# Altium footprint library Phase4.PcbLib: 25 footprints (part 1 of 2)
Each footprint in its own frame and in the unit in brackets; x right, y up, seen from the top. Pads: shape width x height; smd on the part's side, far side on the other; paste and mask are expansions set on the pad; w line width, h text height; cw(c..) or ccw(c..) is an arc to the next point about the centre after c.
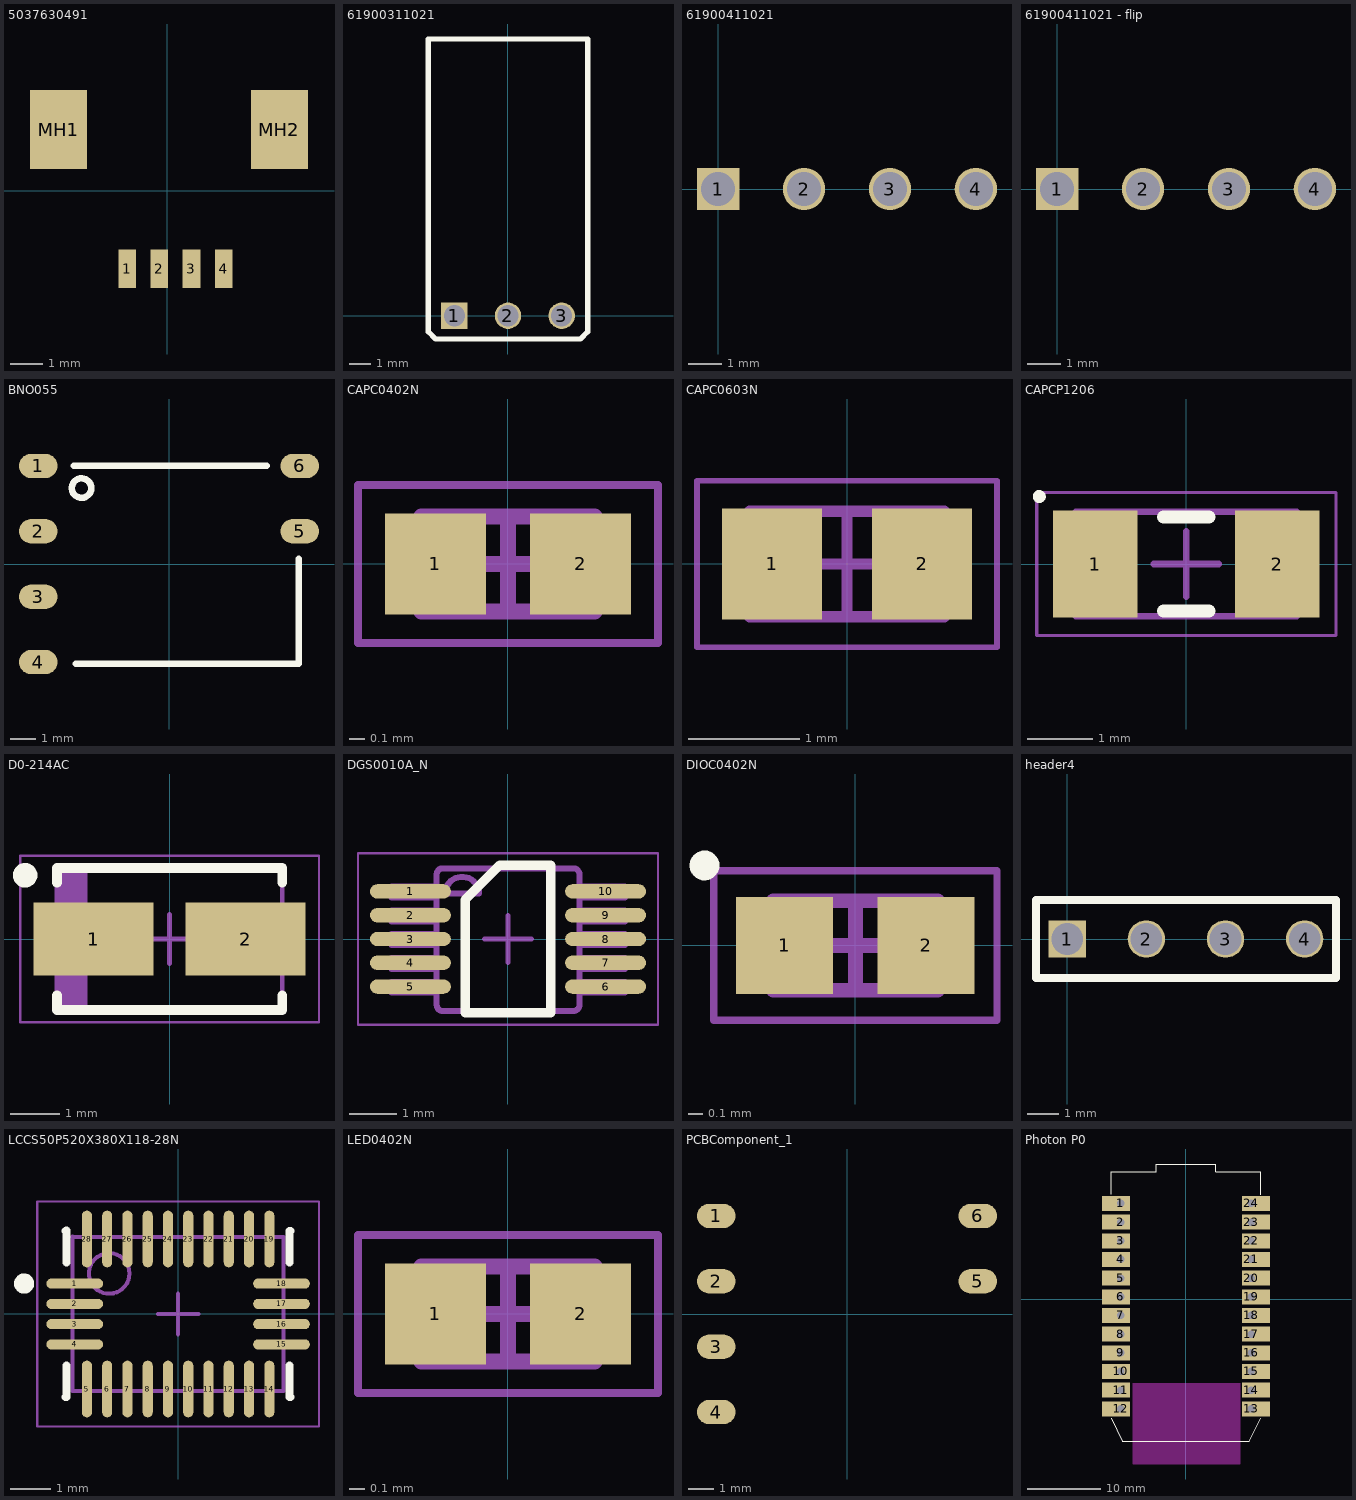
[diagram p0: the footprints below, top view; thin cyan lines are the x and y axes]

## 5037630491 [mm] "4 Positions Header, Shrouded Connector 0.039\" (1.00mm) Surface Mount, Right Angle Gold"
pads (6):
  rect 0.55x1.2 smd: 1(-1.25,-2.425) 2(-0.25,-2.425) 3(0.75,-2.425) 4(1.75,-2.425)
  rect 1.77x2.47 smd: MH1(-3.385,1.91) MH2(3.485,1.91)
3D body "5037630491.stp": height 1.48, standoff -0.02, extent -4.05,-2.115 4.55,3.075

## 61900311021 [mm] "3 Positions Header, Unshrouded Connector 0.100\" (2.54mm) Through Hole, Right Angle Tin"
pads (3):
  rect 1.25x1.25 hole 1: 1(-2.54,0)
  round 1.25 hole 1: 2(0,0) 3(2.54,0)
Top Overlay:
  lines w0.254: -2.9,-1.1 -3.425,-1.1 ; 3.175,-1.1 3.425,-1.1 ; -3.425,-1.1 3.425,-1.1 ; -3.425,-1.1 -3.775,-0.75 -3.775,13.1 3.775,13.1 3.775,-0.75 3.425,-1.1
3D body "61900311021.stp": height 5.9, standoff -3.3, extent -3.785,-0.27 3.835,13.25

## 61900411021 [mm] "4 Positions Header Connector 0.100\" (2.54mm) Through Hole, Right Angle Tin"
pads (4):
  rect 1.25x1.25 hole 1: 1(0,0)
  round 1.25 hole 1: 2(2.54,0) 3(5.08,0) 4(7.62,0)
3D body "61900411021.stp": height 5.9, standoff -3.3, extent -1.23,-13.12 8.93,0.4

## 61900411021 - flip [mm] "4 Positions Header Connector 0.100\" (2.54mm) Through Hole, Right Angle Tin"
pads (4):
  rect 1.25x1.25 hole 1: 1(0,0)
  round 1.25 hole 1: 2(2.54,0) 3(5.08,0) 4(7.62,0)
3D body "61900411021.stp": height 5.9, standoff -3.3, extent -1.275,-0.315 8.885,13.205

## BNO055 [mm] "PESKY PRODUCTS BNO-055 Nano Board"
pads (6):
  oval 1.5x0.95 smd: 1(-5.08,3.81) 2(-5.08,1.27) 3(-5.08,-1.27) 4(-5.08,-3.81) 5(5.08,1.27) 6(5.08,3.81)
Top Overlay:
  circle w0.254: c-3.4,2.95 r0.378
  lines w0.254: -3.7,3.825 3.8,3.825 ; -3.625,-3.875 5.05,-3.875 5.05,0.2
3D body "BNO055_Nano.STEP": height 0.79, standoff 0, extent -5.232,-5.207 5.182,5.207

## CAPC0402N [mm] "Chip Capacitor, 2-Leads, Body 1.00x0.50mm, IPC Medium Density"
height 0.6
pads (2):
  rect 0.64x0.64 smd: 1(-0.46,0) 2(0.46,0)
Mechanical 13:
  lines w0.1: -0.55,-0.3 0.55,-0.3 0.55,0.3 -0.55,0.3 -0.55,-0.3
Mechanical 15:
  lines w0.05: -0.95,-0.5 0.95,-0.5 0.95,0.5 -0.95,0.5 -0.95,-0.5
  lines w0.1: -0.3,0 0.3,0 ; 0,-0.3 0,0.3
3D body "CAPC0402N.step": height 0.6, standoff 0, extent -0.55,-0.3 0.55,0.3

## CAPC0603N [mm] "Chip Capacitor, 2-Leads, Body 1.60x0.80mm, IPC Medium Density"
height 0.85
pads (2):
  rect 0.9x1 smd: 1(-0.675,0) 2(0.675,0)
Mechanical 13:
  lines w0.1: -0.875,-0.475 -0.875,0.475 0.875,0.475 0.875,-0.475 -0.875,-0.475
Mechanical 15:
  lines w0.05: -1.35,-0.75 -1.35,0.75 1.35,0.75 1.35,-0.75 -1.35,-0.75
  lines w0.1: -0.475,0 0.475,0 ; 0,-0.475 0,0.475
3D body "CAPC0603N.step": height 0.85, standoff 0, extent -0.875,-0.475 0.875,0.475

## CAPCP1206 [mm] "Chip Capacitor, 2-Leads, Body 3.20x1.50mm, IPC Medium Density"
height 1.8
pads (2):
  rect 1.3x1.65 smd: 1(-1.4,0) 2(1.4,0)
Top Overlay:
  circle w0.1: c-2.262,1.037 r0.05
  lines w0.2: -0.35,-0.725 0.35,-0.725 ; -0.35,0.725 0.35,0.725
Mechanical 13:
  lines w0.1: -1.7,-0.8 -1.7,0.8 1.7,0.8 1.7,-0.8 -1.7,-0.8
Mechanical 15:
  lines w0.05: -2.3,-1.1 -2.3,1.1 2.3,1.1 2.3,-1.1 -2.3,-1.1
  lines w0.1: -0.5,0 0.5,0 ; 0,-0.5 0,0.5
3D body "CAPCP1206.step": height 1.8, standoff 0, extent -1.7,-0.8 1.7,0.8

## D0-214AC [mm] "Molded Diode, 2-Leads, Body 4.29x2.69mm, IPC Medium Density"
height 2.44
pads (2):
  rect 2.45x1.5 smd: 1(-1.55,0) 2(1.55,0)
Top Overlay:
  circle w0.25: c-2.95,1.3 r0.125
  lines w0.2: -2.3,-1.15 -2.3,-1.45 2.3,-1.45 2.3,-1.15 ; -2.3,1.15 -2.3,1.45 2.3,1.45 2.3,1.15
Mechanical 13:
  rectangle: -2.3,-1.45 -1.681,1.45
  lines w0.1: -2.3,-1.45 2.3,-1.45 2.3,1.45 -2.3,1.45 -2.3,-1.45
Mechanical 15:
  lines w0.05: -3.05,-1.7 3.05,-1.7 3.05,1.7 -3.05,1.7 -3.05,-1.7
  lines w0.1: -0.5,0 0.5,0 ; 0,-0.5 0,0.5
3D body "D0-214AC.step": height 2.44, standoff 0, extent -2.52,-1.45 2.52,1.45

## DGS0010A_N [mm] "TSSOP, 10-Leads, Body 3x3mm, Pitch 0.5mm, IPC Medium Density"
height 1.1
pads (10):
  oval 1.7x0.3 smd mask+0.025: 1(-2.05,1) 2(-2.05,0.5) 3(-2.05,0) 4(-2.05,-0.5) 5(-2.05,-1) 6(2.05,-1) 7(2.05,-0.5) 8(2.05,0) 9(2.05,0.5) 10(2.05,1)
Top Overlay:
  lines w0.2: -0.9,-1.55 0.9,-1.55 0.9,1.55 -0.175,1.55 -0.9,0.825 -0.9,-1.55
Mechanical 5:
  lines w0.127: -2.45,-1.128 -2.45,-0.899 -2.21,-0.899 -2.09,-0.899 -2.087,-0.899 -1.784,-0.899 -1.498,-0.899 -1.498,-1.128 -1.784,-1.128 -2.087,-1.128 -2.09,-1.128 -2.21,-1.128 -2.45,-1.128 ; -2.45,-0.628 -2.45,-0.4 -2.21,-0.4 -2.09,-0.4 -2.087,-0.4 -1.784,-0.4 -1.498,-0.4 -1.498,-0.628 -1.784,-0.628 -2.087,-0.628 -2.09,-0.628 -2.21,-0.628 -2.45,-0.628 ; -2.45,-0.128 -2.45,0.1 -2.21,0.1 -2.09,0.1 -2.087,0.1 -1.784,0.1 -1.498,0.1 -1.498,-0.128 -1.784,-0.128 -2.087,-0.128 -2.09,-0.128 -2.21,-0.128 -2.45,-0.128 ; -2.45,0.372 -2.45,0.6 -2.21,0.6 -2.09,0.6 -2.087,0.6 -1.784,0.6 -1.498,0.6 -1.498,0.372 -1.784,0.372 -2.087,0.372 -2.09,0.372 -2.21,0.372 -2.45,0.372 ; -2.45,0.871 -2.45,1.1 -2.21,1.1 -2.09,1.1 -2.087,1.1 -1.784,1.1 -1.498,1.1 -1.498,0.871 -1.784,0.871 -2.087,0.871 -2.09,0.871 -2.21,0.871 -2.45,0.871 ; -1.497,-1.388 ccw(c-1.37,-1.386) -1.373,-1.513 -1.371,-1.513 1.373,-1.513 1.375,-1.513 ccw(c1.373,-1.386) 1.5,-1.388 1.5,-1.386 1.5,1.358 1.5,1.36 ccw(c1.373,1.358) 1.375,1.485 1.373,1.485 -1.371,1.485 -1.373,1.485 ccw(c-1.37,1.358) -1.497,1.36 -1.498,1.358 -1.498,-1.386 -1.497,-1.388 ; -1.32,0.951 cw(c-0.964,0.951) -0.609,0.951 -1.32,0.951 ; 1.5,-1.128 1.5,-0.899 1.786,-0.899 2.089,-0.899 2.093,-0.899 2.213,-0.899 2.452,-0.899 2.452,-1.128 2.213,-1.128 2.093,-1.128 2.089,-1.128 1.786,-1.128 1.5,-1.128 ; 1.5,-0.628 1.5,-0.4 1.786,-0.4 2.089,-0.4 2.093,-0.4 2.213,-0.4 2.452,-0.4 2.452,-0.628 2.213,-0.628 2.093,-0.628 2.089,-0.628 1.786,-0.628 1.5,-0.628 ; 1.5,-0.128 1.5,0.1 1.786,0.1 2.089,0.1 2.093,0.1 2.213,0.1 2.452,0.1 2.452,-0.128 2.213,-0.128 2.093,-0.128 2.089,-0.128 1.786,-0.128 1.5,-0.128 ; 1.5,0.372 1.5,0.6 1.786,0.6 2.089,0.6 2.093,0.6 2.213,0.6 2.452,0.6 2.452,0.372 2.213,0.372 2.093,0.372 2.089,0.372 1.786,0.372 1.5,0.372 ; 1.5,0.871 1.5,1.1 1.786,1.1 2.089,1.1 2.093,1.1 2.213,1.1 2.452,1.1 2.452,0.871 2.213,0.871 2.093,0.871 2.089,0.871 1.786,0.871 1.5,0.871
  text ".Designator" at -0.125,1.2 h0.64
Mechanical 15:
  lines w0.05: -3.15,-1.8 -3.15,1.8 3.15,1.8 3.15,-1.8 -3.15,-1.8
  lines w0.1: -0.5,0 0.5,0 ; 0,-0.5 0,0.5
3D body "DGS0010AakaMUB10A.stp": height 0.94, standoff -0.02, extent -2.451,-1.499 2.451,1.498

## DIOC0402N [mm] "Chip Diode, 2-Leads, Body 1.00x0.50mm, IPC Medium Density"
height 0.6
pads (2):
  rect 0.65x0.65 smd: 1(-0.475,0) 2(0.475,0)
Top Overlay:
  circle w0.1: c-1.012,0.537 r0.05
Mechanical 13:
  lines w0.1: -0.55,-0.3 -0.55,0.3 0.55,0.3 0.55,-0.3 -0.55,-0.3
Mechanical 15:
  lines w0.05: -0.95,-0.5 -0.95,0.5 0.95,0.5 0.95,-0.5 -0.95,-0.5
  lines w0.1: -0.3,0 0.3,0 ; 0,-0.3 0,0.3
3D body: height 0.6, standoff 0, extent -0.35,-0.3 0.35,0.3
3D body: height 0.6, standoff 0, extent -0.55,-0.3 -0.35,0.3
3D body: height 0.6, standoff 0, extent 0.35,-0.3 0.55,0.3

## header4 [mm] "4 pos, 2.54 mm header"
pads (4):
  rect 1.2x1.2 hole 1.02: 1(0,0)
  round 1.2 hole 1.02: 2(2.54,0) 3(5.08,0) 4(7.62,0)
Top Overlay:
  lines w0.254: -1,-1.25 8.625,-1.25 8.625,1.25 -1,1.25 -1,-1.25
3D body "Pin Header 1x4 TH Pitch 2.54mm.stp": height 9.5, standoff -3.2, extent -1.27,-1.27 8.89,1.27

## LCCS50P520X380X118-28N [mm] "LCC, 28-Pins, Body 5.20x3.80mmx1.18mm, Pitch 0.50mm, IPC Medium Density"
height 1.18
pads (28):
  oval 1.4x0.25 smd: 1(-2.55,0.75) 2(-2.55,0.25) 3(-2.55,-0.25) 4(-2.55,-0.75) 15(2.55,-0.75) 16(2.55,-0.25) 17(2.55,0.25) 18(2.55,0.75)
  oval 0.25x1.4 smd: 5(-2.25,-1.85) 6(-1.75,-1.85) 7(-1.25,-1.85) 8(-0.75,-1.85) 9(-0.25,-1.85) 10(0.25,-1.85) 11(0.75,-1.85) 12(1.25,-1.85) 13(1.75,-1.85) 14(2.25,-1.85) 19(2.25,1.85) 20(1.75,1.85) 21(1.25,1.85) 22(0.75,1.85) 23(0.25,1.85) 24(-0.25,1.85) 25(-0.75,1.85) 26(-1.25,1.85) 27(-1.75,1.85) 28(-2.25,1.85)
Top Overlay:
  circle w0.25: c-3.8,0.75 r0.125
  lines w0.2: -2.775,-2.05 -2.75,-2.05 -2.75,-1.275 ; -2.775,2.05 -2.762,2.05 -2.75,2.062 -2.75,1.275 ; 2.75,-1.275 2.75,-2.05 2.775,-2.05 ; 2.75,1.275 2.75,2.05 2.775,2.05
Mechanical 13:
  circle w0.1: c-1.7,1 r0.5
  lines w0.1: -2.612,1.9 2.6,1.9 2.6,-1.9 -2.6,-1.9 -2.6,1.912 -2.612,1.9
Mechanical 15:
  lines w0.05: -3.475,-2.775 -3.475,2.775 3.475,2.775 3.475,-2.775 -3.475,-2.775
  lines w0.1: -0.5,0 0.5,0 ; 0,-0.5 0,0.5
3D body "User Library-LGA28.step": height 0.92, standoff -0.2, extent -2.525,-1.95 2.475,2.05

## LED0402N [mm] "Chip LED, 2-Leads, Body 1.00x0.50mm, IPC Medium Density"
height 0.6
pads (2):
  rect 0.64x0.64 smd: 1(-0.46,0) 2(0.46,0)
Mechanical 13:
  lines w0.1: -0.55,-0.3 -0.55,0.3 0.55,0.3 0.55,-0.3 -0.55,-0.3
Mechanical 15:
  lines w0.05: -0.95,-0.5 -0.95,0.5 0.95,0.5 0.95,-0.5 -0.95,-0.5
  lines w0.1: -0.3,0 0.3,0 ; 0,-0.3 0,0.3
3D body "0402LEDRED.STEP": height 0.49, standoff -0.02, extent -0.5,-0.25 0.5,0.25

## PCBComponent_1 [mm]
pads (6):
  oval 1.5x0.95 smd: 1(-5.08,3.81) 2(-5.08,1.27) 3(-5.08,-1.27) 4(-5.08,-3.81) 5(5.08,1.27) 6(5.08,3.81)

## Photon P0 [mil]
pads (24):
  rect 150x80 hole 40 copper offset -25,0: 1(-349.39,513.76) 2(-349.39,413.76) 3(-349.39,313.76) 4(-349.39,213.76) 5(-349.39,113.76) 6(-349.39,13.76) 7(-349.39,-86.24) 8(-349.39,-186.24) 9(-349.39,-286.24) 10(-349.39,-386.24) 11(-349.39,-486.24) 12(-349.41,-586.22)
  rect 150x80 hole 40 copper offset 25,0: 13(351.39,-586.22) 14(351.38,-486.22) 15(351.38,-386.22) 16(351.38,-286.24) 17(351.38,-186.24) 18(351.38,-86.24) 19(351.38,13.76) 20(351.38,113.76) 21(351.38,213.76) 22(351.38,313.76) 23(351.38,413.76) 24(351.38,513.76)
Top Overlay:
  lines w3.94: -400.59,-635.83 -340,-758.86 ; -400.59,562.99 -400.59,653.54 -400.59,683.07 -157.88,683.07 -157.88,725.28 161.5,725.28 161.5,683.07 165.35,683.07 400.59,683.07 400.59,560.04 ; 0,-759.84 0.98,-758.86 -340,-758.86 ; 400.59,-635.83 340,-758.86 -340,-758.86
Multi-Layer keep-out:
  region: -283.46,-449.8 -282.48,-448.82 290.35,-448.82 290.35,-881.89 -283.46,-881.89
3D body "photon_214.STEP": height 173.52, standoff 2.84, extent -400,-757.5 402,724.7